# EAGLE library part ADF7012 (library OSSIdonghee)
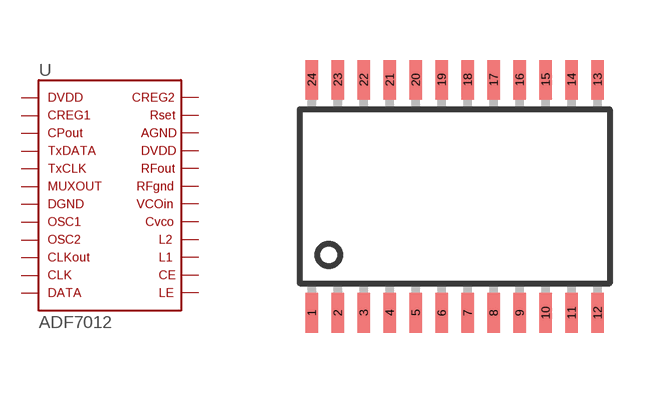
[diagram p6: symbol with the pads of TSSOP24; footprint TSSOP24]

Designator prefix U

## ADF7012  [TSSOP24]
1  DVDD_1  pwr
2  CREG1  pas
3  CPOUT  out
4  TXDATA  in
5  TXCLK  out
6  MUXOUT  pwr
7  DGND
8  OSC1
9  OSC2
10  CLKOUT
11  CLK  in
12  DATA  in
13  LE  in
14  CE  in
15  L1  pas
16  L2  pas
17  CVCO  pas
18  VCOIN  out
19  RFGND  pwr
20  RFOUT  out
21  DVDD_2  pwr
22  AGND  pwr
23  RSET
24  CREG2  pas

## Footprint TSSOP24 (pad centres in mm)
smd 0.305 x 0.991: 1 -3.575,-2.918; 2 -2.925,-2.918; 3 -2.275,-2.918; 4 -1.625,-2.918; 5 -0.975,-2.918; 6 -0.325,-2.918; 7 0.325,-2.918; 8 0.975,-2.918; 9 1.625,-2.918; 10 2.275,-2.918; 11 2.925,-2.918; 12 3.575,-2.918; 13 3.575,2.918; 14 2.925,2.918; 15 2.275,2.918; 16 1.625,2.918; 17 0.975,2.918; 18 0.325,2.918; 19 -0.325,2.918; 20 -0.975,2.918; 21 -1.625,2.918; 22 -2.275,2.918; 23 -2.925,2.918; 24 -3.575,2.918